# Altium schematic symbol library ID Innovations.SCHLIB: 1 symbol
Pins are listed as number, name and electrical type; pins without a type are passive.

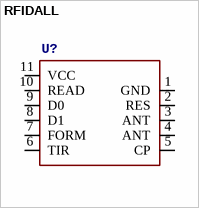
[diagram p0: symbol RFIDALL]

## RFIDALL
designator U?
footprint ID_PACKAGE
pins: 1 GND, 2 RES, 3 ANT, 4 ANT, 5 CP, 6 TIR, 7 FORM, 8 D1, 9 D0, 10 READ, 11 VCC